# Altium footprint library Bivar VLP-XXX-X.PcbLib: 1 footprints
Each footprint in its own frame and in the unit in brackets; x right, y up, seen from the top. Pads: shape width x height; smd on the part's side, far side on the other; paste and mask are expansions set on the pad; w line width, h text height; cw(c..) or ccw(c..) is an arc to the next point about the centre after c.
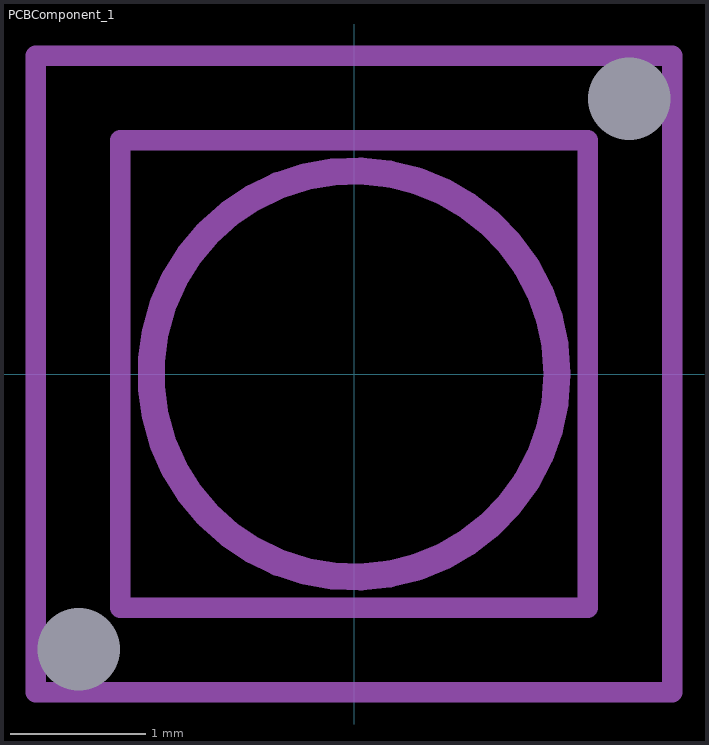
[diagram p0: the footprint, top view; thin cyan lines are the x and y axes]

## PCBComponent_1 [mil] "VLP-XXX-X"
pads (2):
  round 0 hole 24 unplated mask+15: ""(-80,-80) ""(80,80)
Mechanical 1:
  circle w7.87: c0,0 r59.06
  lines w6: -92.5,-92.5 92.5,-92.5 92.5,92.5 -92.5,92.5 -92.5,-92.5 ; -68,-68 -68,68 68,68 68,-68 -68,-68